# EAGLE library part 74HC595 (library dubec)
NXP 74HC595 - 8-bit serial-in, serial or parallel-out shift register with output latches; 3-state
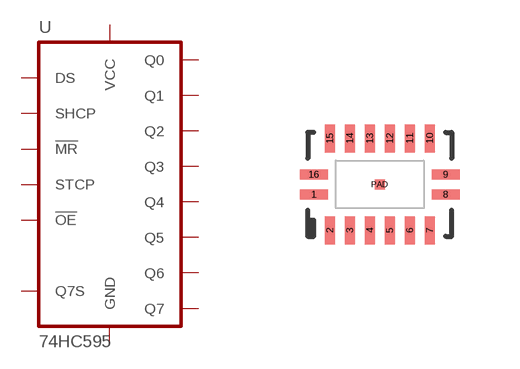
[diagram p26: symbol with the pads of 16-VFQFN; footprint 16-VFQFN]

Designator prefix -

## 74HC595 (DIGIKEY_PART_#: 568-2719-1-ND; EPK: 109.76; MANUFACTURER: NXP Semiconductors; MFG_PART_#: 74HC595BQ,115; TEMP: -40°C ~ 125°C; VCC: 2 V ~ 6 V)  [16-VFQFN]
1  Q1  pas
2  Q2  pas
3  Q3  pas
4  Q4  pas
5  Q5  pas
6  Q6  pas
7  Q7  pas
8  GND  pas
9  Q7S  pas
10  !MR  pas
11  SHCP  pas
12  STCP  pas
13  !OE  pas
14  DS  pas
15  Q0  pas
16  VCC  pas
PAD  GND  pas

## Footprint 16-VFQFN (pad centres in mm)
smd 0.7 x 0.25: 1 -1.65,-0.25; 8 1.65,-0.25; 9 1.65,0.25; 16 -1.65,0.25
smd 0.25 x 0.7: 2 -1.25,-1.15; 3 -0.75,-1.15; 4 -0.25,-1.15; 5 0.25,-1.15; 6 0.75,-1.15; 7 1.25,-1.15; 10 1.25,1.15; 11 0.75,1.15; 12 0.25,1.15; 13 -0.25,1.15; 14 -0.75,1.15; 15 -1.25,1.15
smd 0.25 x 0.25: PAD 0,0